# Altium schematic symbol library RFID Board.SchLib: 108 symbols (part 1 of 2)
Pins are listed as number, name and electrical type; pins without a type are passive.

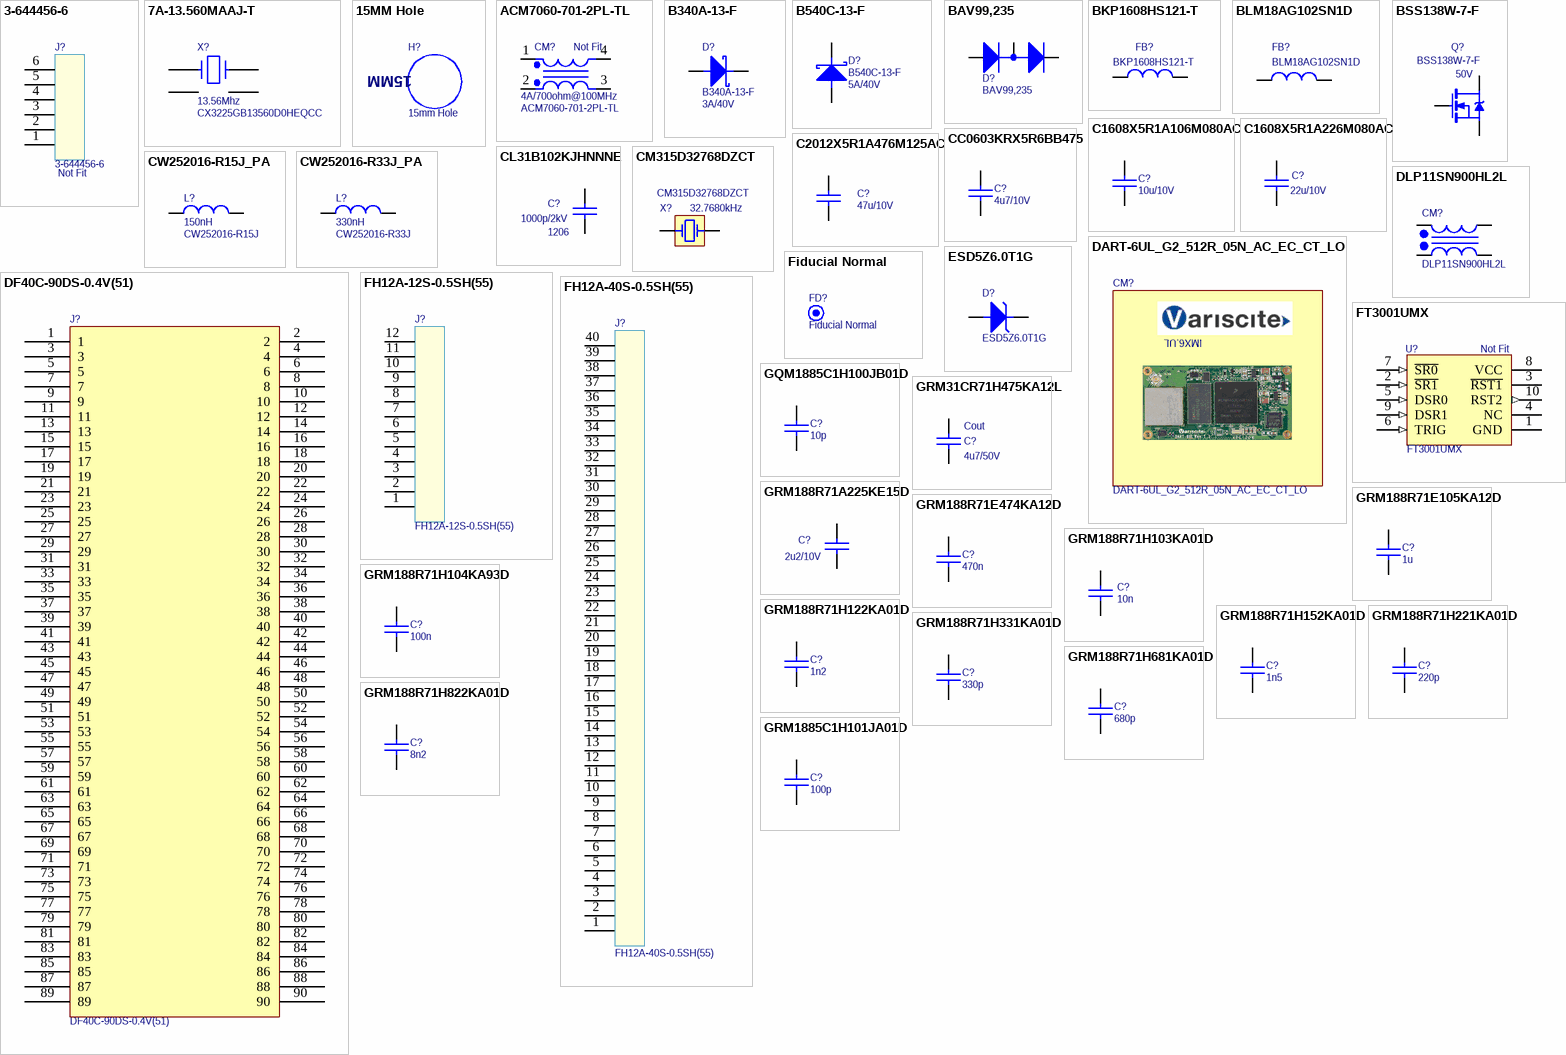
[diagram p0: symbols 3-644456-6 to GRM1885C1H101JA01D]

## 3-644456-6
designator J?  07 Assembly Options: Not Fit
Connector 6 way, 2.54mm, SMT Straight angle; 08 Manufacturer: TE; 06 Package: SMD; 12 Author: M.Fineschi; Notes: Mates with    A31092-ND and A31131-ND and more..; 02 Part Number: 3-644456-6; 03 Description: Connector 6 way, 2.54mm, SMT Straight angle; 04 Value: 3-644456-6; 01 Part Category: Connector; 09 Digikey PN: A31116-ND; 05 Footprint Type: SMD; ComponentLink1Description: Datasheet; ComponentLink1URL: L:\Datasheet\Connector\ENG_CD_644456_D2.pdf
footprint 3-644456-6 (6Pos 100Mil Pitch Header)
pins: 1, 2, 3, 4, 5, 6

## 7A-13.560MAAJ-T
designator X?, comment 13.56Mhz  02 Part Number: CX3225GB13560D0HEQCC
Crystal, 13.56Mhz, 18pF, +-30ppm, 50Ohm, Fundamental; 08 Manufacturer: AVX Corp/Kyocera Corp; 03 Description: CRYSTAL 13.56MHZ 8PF SMD; 06 Package: SMD-4; 05 Footprint Type: SMD; 12 Author: J.Orhan; 04 Value: CX3225GB13560D0HEQCC; 01 Part Category: Crystal; ComponentLink1Description: Datasheet; ComponentLink1URL: L:\Datasheet\Crystal\CX3225GBxD0HEQ_Series_Spec.pdf; 09 Digikey PN: 1253-1171-1-ND
footprint CX3225GB13560D0HEQCC
pins: 1, 2, 3, 4

## 15MM Hole
designator H?, comment 15mm Hole  (no BOM)
01 Part Category: Mechanical; 02 Part Number: M3 Hole; 12 Author: M.Fineschi; 03 Description: 15mm Hole; 04 Value: 15mm
footprint 15mm Hole
text: 15MM

## ACM7060-701-2PL-TL
designator CM?, comment 4A/700ohm@100MHz  07 Assembly Options: Not Fit  02 Part Number: ACM7060-701-2PL-TL
Common Mode Choke, 4A, 500ohm min 700ohm typ @100MHz, 15mOhm Max,; 01 Part Category: Filter; 08 Manufacturer: TDK Corporation; 06 Package: 7x6x3.5mm; 05 Footprint Type: SMD; 12 Author: D.Grace; 03 Description: Common Mode Choke, 4A, 500ohm min 700ohm typ @100MHz, 15mOhm Max,; 04 Value: 700ohm@100MHz; ComponentLink1Description: Datasheet; ComponentLink1URL: L:\Datasheet\Filter\ACM Series.pdf; 09 Digikey PN: 445-2215-2-ND
footprint ACM7060-701-2PL-TL (Common Mode Choke, L7 W6 H3.5)
pins: 1, 2, 3, 4

## B340A-13-F
designator D?  04 Value: 3A/40V
Diode, Schottky, Fast Recovery, 500mV @ 3A, 40V, 3A,  500ns, -65°C - +150°C; 01 Part Category: Protection; 08 Manufacturer: Diodes Inc; 06 Package: SMA; 05 Footprint Type: SMD; 12 Author: K.Sukumar; 03 Description: Diode, Schottky, Fast Recovery, 500mV @ 3A, 40V, 3A,  500ns, -65°C - +150°C; ComponentLink1Description: Datasheet; ComponentLink1URL: L:\Datasheet\Protection\ds30891.pdf; 09 Digikey PN: B340A-FDICT-ND; 02 Part Number: B340A-13-F
footprint CAPM4326X23N (Molded Capacitor, 2-Leads, Body 4.30x2.60mm, IPC Medium Density)
pins: A, K

## B540C-13-F
designator D?  04 Value: 5A/40V
Diode, Schottky, Fast Recovery, 550mV @ 5A, 40V, 5A,  500ns, -55°C - +125°C; 01 Part Category: Protection; 08 Manufacturer: Diodes Inc; 06 Package: SMC; 05 Footprint Type: SMD; 12 Author: J.McLachlan; 03 Description: Diode, Schottky, Fast Recovery, 550mV @ 5A, 40V, 5A,  500ns, -55°C - +125°C; ComponentLink1Description: Datasheet; ComponentLink1URL: L:\Datasheet\Protection\ds13012.pdf; 09 Digikey PN: B540C-FDITR-ND; 02 Part Number: B540C-13-F
footprint B540C (Molded Diode, 2-Leads, Body 7.18x5.90mm, IPC Medium Density)
pins: A, K

## BAV99,235
designator D?
Diodes, Vr = 100V, Io = 215mA, Vf = 1.25V, Tr = 4ns; 01 Part Category: Discreet; 08 Manufacturer: Fairchild Semiconductor; 06 Package: SOT-23-3; 12 Author: D.Grace; 05 Footprint Type: SMD; 02 Part Number: BAV99,235; 03 Description: Diodes, Vr = 100V, Io = 215mA, Vf = 1.25V, Tr = 4ns; 04 Value: BAV99,235; 09 Digikey PN: 568-5005-2-ND; ComponentLink1Description: Datasheet; ComponentLink1URL: L:\Datasheet\Discrete\BAV99_SER.pdf
footprint SOT95P240X130-3N (SOT23-3) DUAL DIODE A_KA_K (SOT23, 3-Leads, Body 3.1x2.7mm (max), Pitch 0.95mm, IPC Medium Density)
pins: A1, K1A2, K2

## BKP1608HS121-T
designator FB?, comment 02 Part Number: BKP1608HS121-T  (hidden comment: 120R@100MHz)
Ferrite Bead, 120R@100MHz, 2.7A, DC 35mohm max, -55 °C to 125°C; 01 Part Category: Filter; 08 Manufacturer: Taiyo Yuden; 06 Package: 0603; 05 Footprint Type: SMD; 12 Author: L.Liu; 03 Description: Ferrite Bead, 120R@100MHz, 2.7A, DC 35mohm max, -55 °C to 125°C; 04 Value: 120R@100MHz; ComponentLink1Description: Datasheet; ComponentLink1URL: I:\Engineering\Library\Datasheet\Filter\S_CIS21J121NE.pdf; 09 Digikey PN: 587-1923-2-ND
footprint RESC1608X06N(0603) (Chip Resistor 0603, 2-Leads, Body 1.6x0.8mm, IPC Medium Density)
pins: 1, 2

## BLM18AG102SN1D
designator FB?, comment 02 Part Number: BLM18AG102SN1D  (hidden comment: 400mA 1kohm@100MHz)
Ferrite Bead, 1kohm@100MHz, 400mA, 500mohm, -55 to 125C; 01 Part Category: Filter; 08 Manufacturer: Murata; 06 Package: 0603; 05 Footprint Type: SMD; 12 Author: M.Fineschi; 03 Description: Ferrite Bead, 1kohm@100MHz, 400mA, 500mohm, -55 to 125C; 04 Value: 1kohm@100MHz; ComponentLink1Description: Datasheet; ComponentLink1URL: L:\Datasheet\Filter\L0110S0100BLM18A.pdf; 09 Digikey PN: 490-1015-2-ND; 10 Alternate Supplier: BLM18AG102SN1D
footprint RESC1608X06N (Chip Resistor 0603, 2-Leads, Body 1.6x0.8mm, IPC Medium Density)
pins: 1, 2

## BSS138W-7-F
designator Q?  Notes: 50V
MOSFET, N-Channel, 3.5Ohm @ 220mA, Vdss = 50V, Id = 200mA,  Pmax = 200mW; 01 Part Category: Discrete; 08 Manufacturer: Diodes Inc; 06 Package: SC-70; 05 Footprint Type: SMD; 12 Author: D.Grace; 02 Part Number: BSS138W-7-F; 03 Description: MOSFET, N-Channel, 3.5Ohm @ 220mA, Vdss = 50V, Id = 200mA,  Pmax = 200mW; 04 Value: BSS138W-7-F; ComponentLink1Description: Datasheet; ComponentLink1URL: L:\Datasheet\Discrete\BSS138W-7-F.pdf; 09 Digikey PN: BSS138W-FDITR-ND
footprint SOT65P210X100-3N (SOT323) MOSFET GSD (SOT323, 3-Leads, Body 2.2x2.2mm (max), Pitch 0.65mm, IPC Medium Density)
pins: D, G, S

## C1608X5R1A106M080AC
designator C?, comment 10u/10V
Capacitor, Ceramic, 10V, ±20%, X5R, -55°C to 85°C; 02 Part Number: C1608X5R1A106M080AC; 08 Manufacturer: TDK Corporation; 04 Value: 10u; 06 Package: 0603; 12 Author: K.Sukumar; 05 Footprint Type: SMD; 03 Description: Capacitor, Ceramic, 10V, ±20%, X5R, -55°C to 85°C; 01 Part Category: Capacitor; 09 Digikey PN: 445-6853-2-ND; ComponentLink1Description: Datasheet; ComponentLink1URL: L:\Datasheet\Capacitor\mlcc_commercial_general_en.pdf
footprint CAPC1608X09N(0603) (Chip Capacitor 0603, 2-Leads, Body 1.7x0.8mm, H0.9mm, IPC Medium Density)
pins: 1, 2

## C1608X5R1A226M080AC
designator C?, comment 22u/10V
Capacitor, Ceramic, 10V, ±20%, X5R, -55°C to 85°C; 02 Part Number: C1608X5R1A226M080AC; 08 Manufacturer: TDK Corporation; 04 Value: 22u; 06 Package: 0603; 12 Author: K.Sukumar; 05 Footprint Type: SMD; 03 Description: Capacitor, Ceramic, 10V, ±20%, X5R, -55°C to 85°C; 01 Part Category: Capacitor; 09 Digikey PN: 445-9077-2-ND; ComponentLink1Description: Datasheet; ComponentLink1URL: L:\Datasheet\Capacitor\mlcc_commercial_general_en.pdf
footprint CAPC1608X09N(0603) (Chip Capacitor 0603, 2-Leads, Body 1.7x0.8mm, H0.9mm, IPC Medium Density)
pins: 1, 2

## C2012X5R1A476M125AC
designator C?, comment 47u/10V
Capacitor, Ceramic, 10V, ±20%, X5R, -55°C to 85°C; 02 Part Number: C2012X5R1A476M125AC; 08 Manufacturer: TDK; 04 Value: 47u; 06 Package: 0805; 12 Author: K.Sukumar; 05 Footprint Type: SMD; 03 Description: Capacitor, Ceramic, 10V, ±20%, X5R, -55°C to 85°C; 01 Part Category: Capacitor; 09 Digikey PN: 445-8239-2-ND; ComponentLink1Description: Datasheet; ComponentLink1URL: L:\Datasheet\Capacitor\mlcc_commercial_general_en.pdf
footprint CAPC2012X13N(0805) (Chip Capacitor 0805, 2-Leads, Body 2.0x1.3mm, H1.3mm, IPC Medium Density)
pins: 1, 2

## CC0603KRX5R6BB475
designator C?, comment 4u7/10V
Capacitor, Ceramic, 10V, ±10%, X5R, -55°C to 125°C; 02 Part Number: CC0603KRX5R6BB475; 08 Manufacturer: Yageo; 04 Value: 4u7; 06 Package: 0603; 12 Author: K.Sukumar; 05 Footprint Type: SMD; 03 Description: Capacitor, Ceramic, 10V, ±10%, X5R, -55°C to 125°C; 01 Part Category: Capacitor; 09 Digikey PN: 311-1455-2-ND; ComponentLink1Description: Datasheet; ComponentLink1URL: L:\Datasheet\Capacitor\mlcc01_e.pdf
footprint CAPC1608X09N(0603) (Chip Capacitor 0603, 2-Leads, Body 1.7x0.8mm, H0.9mm, IPC Medium Density)
pins: 1, 2

## CL31B102KJHNNNE
designator C?, comment 1000p/2kV  06 Package: 1206
Capacitor, Ceramic, 1n, 2kV, ±10%, X7R, -55°C to 125°C; 08 Manufacturer: Samsung Electromechanics; 02 Part Number: CL31B102KJHNNNE; 12 Author: M.Fineschi; 05 Footprint Type: SMD; 03 Description: Capacitor, Ceramic, 1n, 2kV, ±10%, X7R, -55°C to 125°C; 04 Value: 1n; 01 Part Category: Capacitor; 09 Digikey PN: 1276-3073-1-ND; ComponentLink1Description: Datasheet; ComponentLink1URL: L:\Datasheet\Capacitor\CL31B102KJHNNNE_Spec.pdf
footprint CAPC3216X16N(1206) (Chip Capacitor, 2-Leads, Body 3.2x1.6mm, H1.6mm, IPC Medium Density)
pins: 1, 2

## CM315D32768DZCT
designator X?, comment 32.7680kHz  04 Value: CM315D32768DZCT
Crystal, 32.7680kHz, 9pF/12.5pF, ESR 70k, f Tolerance ±20ppm, Fundamental, -40°C to 85°C; 08 Manufacturer: Citizen Finedevice Co Ltd; 06 Package: 1206; 05 Footprint Type: SMD; 12 Author: D.Grace; 03 Description: Crystal, 32.7680kHz, 9pF/12.5pF, ESR 70k, f Tolerance ±20ppm, Fundamental, -40°C to 85°C; 01 Part Category: Crystal; ComponentLink1Description: Datasheet; ComponentLink1URL: L:\Datasheet\Crystal\CM315D.pdf; 09 Digikey PN: 300-8813-2-ND; 02 Part Number: CM315D32768DZCT
footprint CM315D32768DZCT (Crystal, 32.768kHz, 3.2x1.5x0.9mm)
pins: 1 HOT, 2 HOT
1 alternate drawing of the same symbol

## CW252016-R15J_PA
designator L?, comment 150nH  02 Part Number: CW252016-R15J
Inductor, 150nH , I = 500mA, 220 mOhm, SRF 850MHz, ±5%; 01 Part Category: Passive; 08 Manufacturer: Bourns Inc; 06 Package: 1008; 05 Footprint Type: SMD; 12 Author: D.Grace; 13 Reviewed By: P.Moutzouris; 03 Description: Inductor, 150nH , I = 500mA, 220 mOhm, SRF 850MHz, ±5%; 04 Value: 150nH; ComponentLink1Description: Datasheet; ComponentLink1URL: L:\Datasheet\Inductor\CW252016.pdf; 09 Digikey PN: CW252016-R15JTR-ND
footprint CW252016
pins: 1, 2

## CW252016-R33J_PA
designator L?, comment 330nH  02 Part Number: CW252016-R33J
Inductor, 330nH , I = 500mA, 900 mOhm, SRF 570MHz, ±5%; 01 Part Category: Passive; 08 Manufacturer: Bourns Inc; 06 Package: 1008; 05 Footprint Type: SMD; 12 Author: D.Grace; 13 Reviewed By: P.Moutzouris; 03 Description: Inductor, 330nH , I = 500mA, 900 mOhm, SRF 570MHz, ±5%; 04 Value: 330nH; ComponentLink1Description: Datasheet; ComponentLink1URL: L:\Datasheet\Inductor\CW252016.pdf; 09 Digikey PN: CW252016-R33JTR-ND
footprint CW252016
pins: 1, 2

## DART-6UL_G2_512R_05N_AC_EC_CT_LO
designator CM?
Computer Module, 528MHz, no GPU, 512MB RAM, 512MB Flash, 100Mb Ethernet PHY, Audio, USB OTG; 08 Manufacturer: Variscite; 06 Package: 2x90 pin connector; 05 Footprint Type: Snap; Notes: Connector interface DF40C-90DS-0.4V(51); 12 Author: M.Fineschi; 02 Part Number: DART-6UL_G2_512R_05N_AC_EC_CT_LO; 03 Description: Computer Module, 528MHz, no GPU, 512MB RAM, 512MB Flash, 100Mb Ethernet PHY, Audio, USB OTG; 04 Value: DART-6UL_G2_512R_05N_AC_EC_CT_LO; 01 Part Category: Computer; ComponentLink1Description: Datasheet; ComponentLink1URL: L:\Datasheet\Computer\DART-6UL_v1_2_Datasheet_v1_4.pdf
footprint DART-6UL_G2 (Compute Module 255x50x4mm.)
text: IMX6.UL

## DF40C-90DS-0.4V(51)
designator J?
Board to Board Connector Header  90POS 0.4MM, smd, gold; 08 Manufacturer: Hirose; 06 Package: 90pin B2B Connector; Notes: Mates with H11878TR-ND; 12 Author: M.Fineschi; 03 Description: Board to Board Connector Header  90POS 0.4MM, smd, gold; 04 Value: DF40C-90DS-0.4V(51); 01 Part Category: Connector; 05 Footprint Type: SMD; ComponentLink1Description: Datasheet; ComponentLink1URL: L:/Datasheet/Connector/ed_DF40_20140305.pdf; 09 Digikey PN: H11877CT-ND; 02 Part Number: DF40C-90DS-0.4V(51)
footprint DF40C-90DS-0.4V(51) (Board to Board Connector 90 way, 0.4mm pitch,)
pins: 1, 2, 3, 4, 5, 6, 7, 8, 9, 10, 11, 12, 13, 14, 15, 16, 17, 18, 19, 20, 21, 22, 23, 24, 25, 26, 27, 28, 29, 30, 31, 32, 33, 34, 35, 36, 37, 38, 39, 40, 41, 42, 43, 44, 45, 46, 47, 48, 49, 50, 51, 52, 53, 54, 55, 56, 57, 58, 59, 60, 61, 62, 63, 64, 65, 66, 67, 68, 69, 70, 71, 72, 73, 74, 75, 76, 77, 78, 79, 80, 81, 82, 83, 84, 85, 86, 87, 88, 89, 90

## DLP11SN900HL2L
designator CM?
Common Mode Choque, 90Ohm , 150mA, 1.5Ohm DCR, -40 ~ 85 C; 01 Part Category: Filter; 08 Manufacturer: Murata; 03 Description: Inductor, 10µH , 3A rated, 3.2A Saturation, 72mOhm; 06 Package: 1210; 05 Footprint Type: SMD; 12 Author: M.Fineschi; 04 Value: DLP11SN900HL2L; ComponentLink1Description: Datasheet; ComponentLink1URL: L:\Datasheet\Filter\L0114S0129DLP11.pdf; 09 Digikey PN: 490-5143-1-ND; 02 Part Number: DLP11SN900HL2L
footprint DLP11SN900HL2L (DFN, 4-Leads, Body 1.25x1.01mm, Pitch 1.00mm, IPC Medium Density)
pins: 1, 2, 3, 4

## ESD5Z6.0T1G
designator D?
TVS Diode, Reverse Standoff 6V, Breakdown 6.8V, Clamping 20.5V, Peak Pulse 8.8A (8/20µs); 01 Part Category: Discrete; 08 Manufacturer: ON Semiconductor; 06 Package: SOD-523; 05 Footprint Type: SMD; 12 Author: L.Liu; 02 Part Number: ESD5Z6.0T1G; 03 Description: TVS Diode, Reverse Standoff 6V, Breakdown 6.8V, Clamping 20.5V, Peak Pulse 8.8A (8/20µs); 04 Value: ESD5Z6.0T1G; ComponentLink1Description: Datasheet; ComponentLink1URL: L:\Datasheet\Protection\ESD5Z2.5T1-D.PDF; 09 Digikey PN: ESD5Z6.0T1GOSTR-ND
footprint SODFL160X70-2N (SOD-523) (SODFL, 2-Leads, Body 0.80x1.60mm, IPC Medium Density)
pins: A, K

## FH12A-12S-0.5SH(55)
designator J?
Connector, FFC, Top, 12 way, 0.5mm, Right-Angle; 08 Manufacturer: Hirose Electric; 06 Package: SMD; 12 Author: M.Fineschi; 02 Part Number: FH12A-12S-0.5SH(55); 03 Description: Connector, FFC, Top, 12 way, 0.5mm, Right-Angle; 04 Value: FH12A-12S-0.5SH(55); 01 Part Category: Connector; 09 Digikey PN: HFK112CT-ND; 05 Footprint Type: SMD; ComponentLink1Description: Datasheet; ComponentLink1URL: L:/Datasheet/Connector/FH12_catalog.pdf
footprint FH12A-12S-0.5SH(55) (Connector, FFC, Flip, Top & Bottom, 8 way, 2mm, Right-Angle, 6.95x10.5mm)
pins: 1, 2, 3, 4, 5, 6, 7, 8, 9, 10, 11, 12

## FH12A-40S-0.5SH(55)
designator J?
Connector, FFC, Flip Type, Top , 40 way, 0.5mm, Right-Angle; 08 Manufacturer: Hirose Electric; 06 Package: SMD; 12 Author: M.Fineschi; 02 Part Number: FH12A-40S-0.5SH(55); 03 Description: Connector, FFC, Flip Type, Top , 40 way, 0.5mm, Right-Angle; 04 Value: FH12A-40S-0.5SH(55); 01 Part Category: Connector; 09 Digikey PN: HFK140DKR-ND; 05 Footprint Type: SMD; ComponentLink1Description: Datasheet; ComponentLink1URL: L:/Datasheet/Connector/FH12_catalog.pdf
footprint FH12A-40S-0.5SH(55) (Connector, FFC, Flip, Top Contact, 40 way, 0.5mm, Right-Angle, 24.7x5.25mm)
pins: 1, 2, 3, 4, 5, 6, 7, 8, 9, 10, 11, 12, 13, 14, 15, 16, 17, 18, 19, 20, 21, 22, 23, 24, 25, 26, 27, 28, 29, 30, 31, 32, 33, 34, 35, 36, 37, 38, 39, 40

## Fiducial Normal
designator FD?  (no BOM)
01 Part Category: PCB
footprint FID 1mm (FID, 1mm Solder Mask Clearance)

## FT3001UMX
designator U?  07 Assembly Options: Not Fit
Reset Timer with Configurable Delay, Quiescent Supply Current 1uA, -40C~85C; 01 Part Category: IC; 08 Manufacturer: Fairchild Semiconductor; 05 Footprint Type: SMD; 06 Package: 10UMLP; 12 Author: D.Grace; 02 Part Number: FT3001UMX; 03 Description: Reset Timer with Configurable Delay, Quiescent Supply Current 1uA, -40C~85C; 04 Value: FT3001UMX; 09 Digikey PN: FT3001UMXTR-ND; ComponentLink1Description: Datasheet; ComponentLink1URL: L:\Datasheet\IC\FT3001.pdf
footprint UMLP10 (UMLP 10 pin 1.4x1.8mm)
pins: 1 GND (power), 2 ~{SR1} (in), 3 ~{RST1} (oc), 4 NC, 5 DSR0 (in), 6 TRIG (in), 7 ~{SR0} (in), 8 VCC (power), 9 DSR1 (in), 10 RST2 (out)

## GQM1885C1H100JB01D
designator C?, comment 10p
Capacitor, Ceramic, 50V, ±5%, NP0, -55°C to 125°C; 02 Part Number: GQM1885C1H100JB01D; 08 Manufacturer: Murata Electronics North America; 06 Package: 0603; 12 Author: M.Fineschi; 05 Footprint Type: SMD; 03 Description: Capacitor, Ceramic, 50V, ±5%, NP0, -55°C to 125°C; 04 Value: 10p; 01 Part Category: Capacitor; 09 Digikey PN: 490-3570-1-ND; ComponentLink1Description: Datasheet; ComponentLink1URL: L:\Datasheet\Capacitor\c02e.pdf
footprint CAPC1608X09N(0603) (Chip Capacitor 0603, 2-Leads, Body 1.7x0.8mm, H0.9mm, IPC Medium Density)
pins: 1, 2

## GRM31CR71H475KA12L
designator C?, comment Cout  04 Value: 4u7/50V
Capacitor, Ceramic, 50V, ±10%, X7R, -55°C to 125°C; 02 Part Number: GRM31CR71H475KA12L; 08 Manufacturer: Murata Electronics North America; 06 Package: 1206; 12 Author: D.Grace; 05 Footprint Type: SMD; 03 Description: Capacitor, Ceramic, 50V, ±10%, X7R, -55°C to 125°C; 01 Part Category: Capacitor; 09 Digikey PN: 490-6521-2-ND; ComponentLink1Description: Datasheet; ComponentLink1URL: L:\Datasheet\Capacitor\c02e.pdf
footprint CAPC3216X16N(1206) (Chip Capacitor, 2-Leads, Body 3.2x1.6mm, H1.6mm, IPC Medium Density)
pins: 1, 2

## GRM188R71A225KE15D
designator C?, comment 2u2/10V
Capacitor, Ceramic, 10V, ±10%, X7R, -55°C to 125°C; 02 Part Number: GRM188R71A225KE15D; 08 Manufacturer: Murata Electronics North America; 04 Value: 2u2; 06 Package: 0603; 12 Author: D.Grace; 05 Footprint Type: SMD; 03 Description: Capacitor, Ceramic, 10V, ±10%, X7R, -55°C to 125°C; 01 Part Category: Capacitor; 09 Digikey PN: 490-4520-2-ND; ComponentLink1Description: Datasheet; ComponentLink1URL: L:\Datasheet\Capacitor\c02e.pdf
footprint CAPC1608X09N(0603) (Chip Capacitor 0603, 2-Leads, Body 1.7x0.8mm, H0.9mm, IPC Medium Density)
pins: 1, 2

## GRM188R71E105KA12D
designator C?, comment 1u
Capacitor, Ceramic, 25V, ±10%, X7R, -55°C to 125°C; 02 Part Number: GRM188R71E105KA12D; 08 Manufacturer: Murata Electronics North America; 06 Package: 0603; 12 Author: D.Grace; 05 Footprint Type: SMD; 03 Description: Capacitor, Ceramic, 25V, ±10%, X7R, -55°C to 125°C; 04 Value: 1u; 01 Part Category: Capacitor; 09 Digikey PN: 490-5307-2-ND; ComponentLink1Description: Datasheet; ComponentLink1URL: L:\Datasheet\Capacitor\c02e.pdf
footprint CAPC1608X09N(0603) (Chip Capacitor 0603, 2-Leads, Body 1.7x0.8mm, H0.9mm, IPC Medium Density)
pins: 1, 2

## GRM188R71E474KA12D
designator C?, comment 470n
Capacitor, Ceramic, 25V, ±10%, X7R, -55°C to 125°C; 02 Part Number: GRM188R71E474KA12D; 08 Manufacturer: Murata Electronics North America; 06 Package: 0603; 12 Author: D.Grace; 05 Footprint Type: SMD; 03 Description: Capacitor, Ceramic, 25V, ±10%, X7R, -55°C to 125°C; 04 Value: 470n; 01 Part Category: Capacitor; 09 Digikey PN: 490-3291-2-ND; ComponentLink1Description: Datasheet; ComponentLink1URL: L:\Datasheet\Capacitor\Chip Monolithic Ceramic Caps.pdf
footprint CAPC1608X09N(0603) (Chip Capacitor 0603, 2-Leads, Body 1.7x0.8mm, H0.9mm, IPC Medium Density)
pins: 1, 2

## GRM188R71H103KA01D
designator C?, comment 10n
Capacitor, Ceramic, 50V, ±10%, X7R, -55°C to 125°C; 02 Part Number: GRM188R71H103KA01D; 08 Manufacturer: Murata Electronics North America; 06 Package: 0603; 12 Author: D.Grace; 05 Footprint Type: SMD; 03 Description: Capacitor, Ceramic, 50V, ±10%, X7R, -55°C to 125°C; 04 Value: 10n; 01 Part Category: Capacitor; 09 Digikey PN: 490-1512-2-ND; ComponentLink1Description: Datasheet; ComponentLink1URL: L:\Datasheet\Capacitor\c02e.pdf
footprint CAPC1608X09N(0603) (Chip Capacitor 0603, 2-Leads, Body 1.7x0.8mm, H0.9mm, IPC Medium Density)
pins: 1, 2

## GRM188R71H104KA93D
designator C?, comment 100n
Capacitor, Ceramic, 50V, ±10%, X7R, -55°C to 125°C; 02 Part Number: GRM188R71H104KA93D; 08 Manufacturer: Murata Electronics North America; 06 Package: 0603; 12 Author: D.Grace; 05 Footprint Type: SMD; 03 Description: Capacitor, Ceramic, 50V, ±10%, X7R, -55°C to 125°C; 04 Value: 100n; 01 Part Category: Capacitor; 09 Digikey PN: 490-1519-2-ND; ComponentLink1Description: Datasheet; ComponentLink1URL: L:\Datasheet\Capacitor\c02e.pdf
footprint CAPC1608X09N(0603) (Chip Capacitor 0603, 2-Leads, Body 1.7x0.8mm, H0.9mm, IPC Medium Density)
pins: 1, 2

## GRM188R71H122KA01D
designator C?, comment 1n2
Capacitor, Ceramic, 50V, ±10%, X7R, -55°C to 125°C; 02 Part Number: GRM188R71H122KA01D; 08 Manufacturer: Murata Electronics North America; 06 Package: 0603; 12 Author: M.Fineschi; 05 Footprint Type: SMD; 03 Description: Capacitor, Ceramic, 50V, ±10%, X7R, -55°C to 125°C; 04 Value: 1n2; 01 Part Category: Capacitor; 09 Digikey PN: 490-1496-1-ND; ComponentLink1Description: Datasheet; ComponentLink1URL: L:\Datasheet\Capacitor\c02e.pdf
footprint CAPC1608X09N(0603) (Chip Capacitor 0603, 2-Leads, Body 1.7x0.8mm, H0.9mm, IPC Medium Density)
pins: 1, 2

## GRM188R71H152KA01D
designator C?, comment 1n5
Capacitor, Ceramic, 50V, ±10%, X7R, -55°C to 125°C; 02 Part Number: GRM188R71H152KA01D; 08 Manufacturer: Murata Electronics North America; 06 Package: 0603; 12 Author: M.Fineschi; 05 Footprint Type: SMD; 03 Description: Capacitor, Ceramic, 50V, ±10%, X7R, -55°C to 125°C; 04 Value: 1n5; 01 Part Category: Capacitor; 09 Digikey PN: 490-1498-1-ND; ComponentLink1Description: Datasheet; ComponentLink1URL: L:\Datasheet\Capacitor\c02e.pdf
footprint CAPC1608X09N(0603) (Chip Capacitor 0603, 2-Leads, Body 1.7x0.8mm, H0.9mm, IPC Medium Density)
pins: 1, 2

## GRM188R71H221KA01D
designator C?, comment 220p
Capacitor, Ceramic, 50V, ±10%, X7R, -55°C to 125°C; 02 Part Number: GRM188R71H221KA01D; 08 Manufacturer: Murata Electronics North America; 06 Package: 0603; 12 Author: M.Fineschi; 05 Footprint Type: SMD; 03 Description: Capacitor, Ceramic, 50V, ±10%, X7R, -55°C to 125°C; 04 Value: 220p; 01 Part Category: Capacitor; 09 Digikey PN: 490-1483-1-ND; ComponentLink1Description: Datasheet; ComponentLink1URL: L:\Datasheet\Capacitor\c02e.pdf
footprint CAPC1608X09N(0603) (Chip Capacitor 0603, 2-Leads, Body 1.7x0.8mm, H0.9mm, IPC Medium Density)
pins: 1, 2

## GRM188R71H331KA01D
designator C?, comment 330p
Capacitor, Ceramic, 50V, ±10%, X7R, -55°C to 125°C; 02 Part Number: GRM188R71H331KA01D; 08 Manufacturer: Murata Electronics North America; 06 Package: 0603; 12 Author: M.Fineschi; 05 Footprint Type: SMD; 03 Description: Capacitor, Ceramic, 50V, ±10%, X7R, -55°C to 125°C; 04 Value: 330p; 01 Part Category: Capacitor; 09 Digikey PN: 490-1486-1-ND; ComponentLink1Description: Datasheet; ComponentLink1URL: L:\Datasheet\Capacitor\c02e.pdf
footprint CAPC1608X09N(0603) (Chip Capacitor 0603, 2-Leads, Body 1.7x0.8mm, H0.9mm, IPC Medium Density)
pins: 1, 2

## GRM188R71H681KA01D
designator C?, comment 680p
Capacitor, Ceramic, 50V, ±10%, X7R, -55°C to 125°C; 02 Part Number: GRM188R71H681KA01D; 08 Manufacturer: Murata Electronics North America; 06 Package: 0603; 12 Author: M.Fineschi; 05 Footprint Type: SMD; 03 Description: Capacitor, Ceramic, 50V, ±10%, X7R, -55°C to 125°C; 04 Value: 680p; 01 Part Category: Capacitor; 09 Digikey PN: 490-1491-1-ND; ComponentLink1Description: Datasheet; ComponentLink1URL: L:\Datasheet\Capacitor\c02e.pdf
footprint CAPC1608X09N(0603) (Chip Capacitor 0603, 2-Leads, Body 1.7x0.8mm, H0.9mm, IPC Medium Density)
pins: 1, 2

## GRM188R71H822KA01D
designator C?, comment 8n2
Capacitor, Ceramic, 50V, ±10%, X7R, -55°C to 125°C; 02 Part Number: GRM188R71H822KA01D; 08 Manufacturer: Murata Electronics North America; 06 Package: 0603; 12 Author: D.Grace; 05 Footprint Type: SMD; 03 Description: Capacitor, Ceramic, 50V, ±10%, X7R, -55°C to 125°C; 04 Value: 8n2; 01 Part Category: Capacitor; 09 Digikey PN: 490-1510-2-ND; 10 Alternate Supplier: Mouser; 11 Alternate Supplier PN: 81-GRM39X822K50D; ComponentLink1Description: Datasheet; ComponentLink1URL: L:\Datasheet\Capacitor\c02e.pdf
footprint CAPC1608X09N(0603) (Chip Capacitor 0603, 2-Leads, Body 1.7x0.8mm, H0.9mm, IPC Medium Density)
pins: 1, 2

## GRM1885C1H101JA01D
designator C?, comment 100p
Capacitor, Ceramic, 50V, ±5%, C0G NP0, -55°C to 125°C; 02 Part Number: GRM1885C1H101JA01D; 08 Manufacturer: Murata Electronics North America; 06 Package: 0603; 12 Author: D.Grace; 05 Footprint Type: SMD; 03 Description: Capacitor, Ceramic, 50V, ±5%, C0G NP0, -55°C to 125°C; 04 Value: 100p; 01 Part Category: Capacitor; 09 Digikey PN: 490-1427-2-ND; 10 Alternate Supplier: Mouser; 11 Alternate Supplier PN: 81-GRM39C101J50; ComponentLink1Description: Datasheet; ComponentLink1URL: L:\Datasheet\Capacitor\c02e.pdf
footprint CAPC1608X09N(0603) (Chip Capacitor 0603, 2-Leads, Body 1.7x0.8mm, H0.9mm, IPC Medium Density)
pins: 1, 2

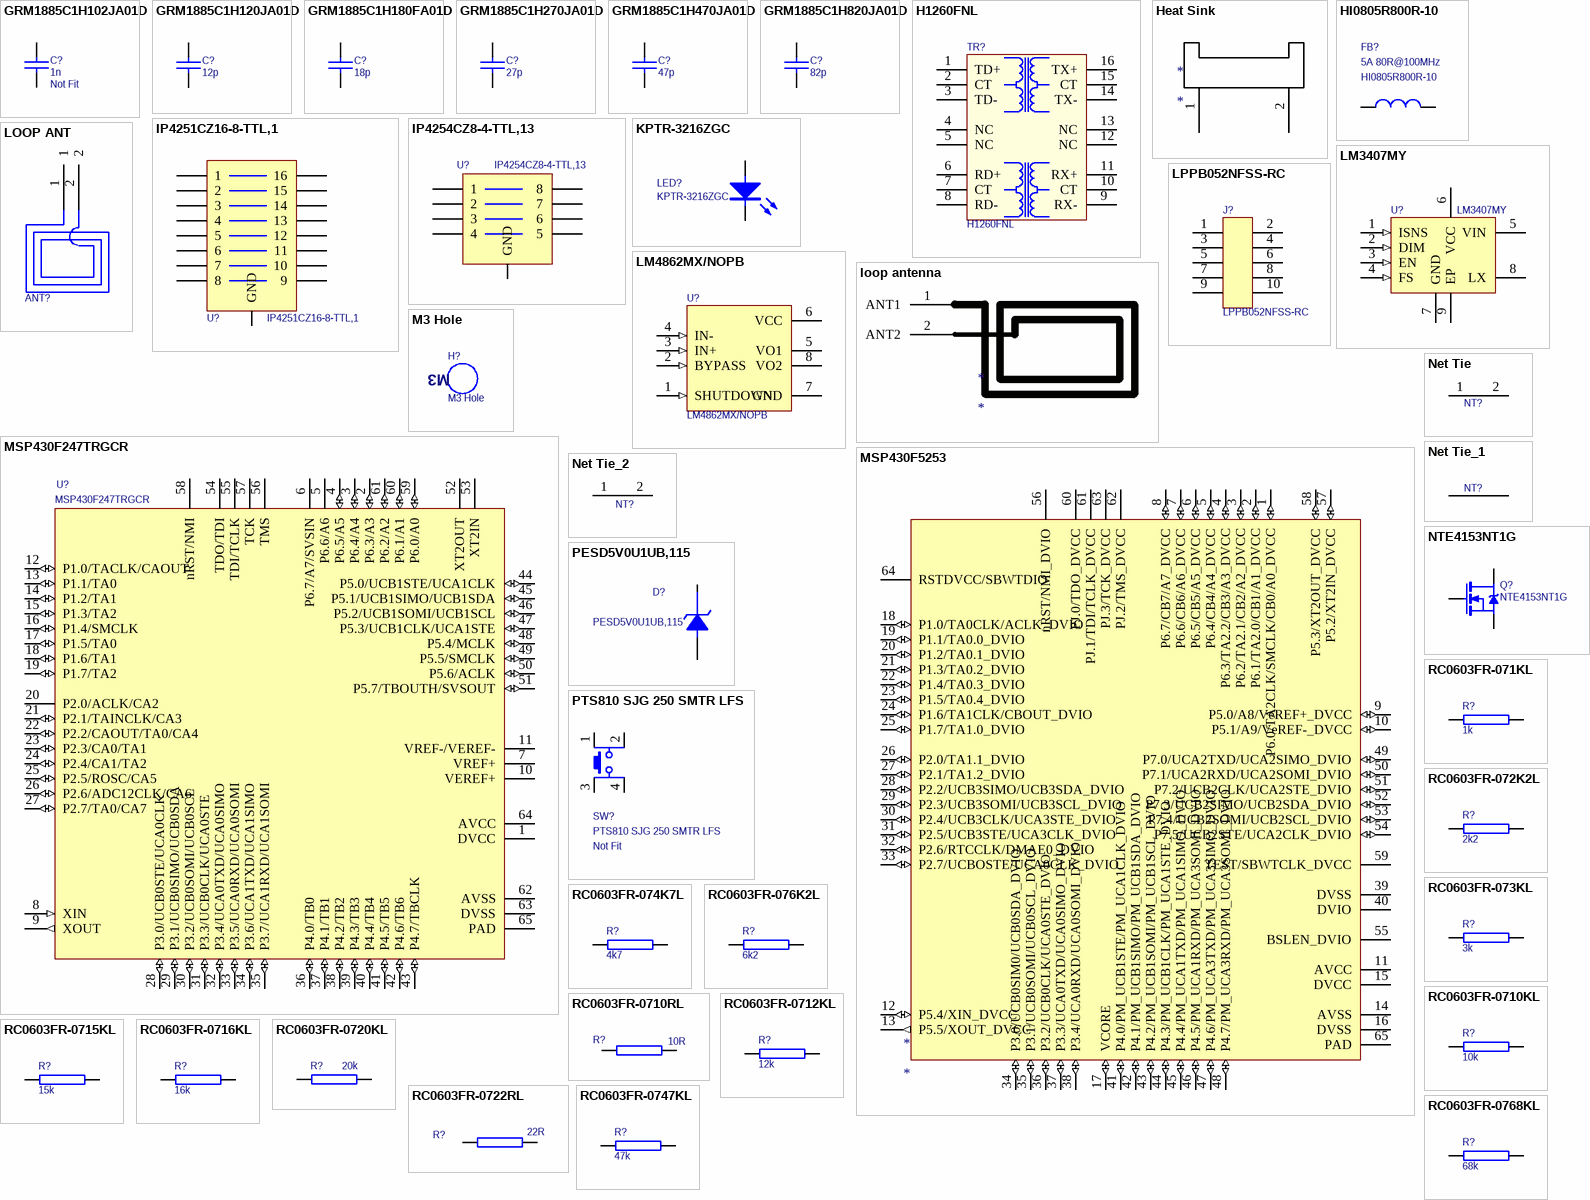
[diagram p1: symbols GRM1885C1H102JA01D to RC0603FR-0768KL]

## GRM1885C1H102JA01D
designator C?, comment 1n  07 Assembly Options: Not Fit
Capacitor, Ceramic, 50V, ±5%, C0G NP0, -55°C to 125°C; 02 Part Number: GRM1885C1H102JA01D; 08 Manufacturer: Murata Electronics North America; 06 Package: 0603; 12 Author: D.Grace; 05 Footprint Type: SMD; 03 Description: Capacitor, Ceramic, 50V, ±5%, C0G NP0, -55°C to 125°C; 04 Value: 1n; 01 Part Category: Capacitor; 09 Digikey PN: 490-1451-2-ND; ComponentLink1Description: Datasheet; ComponentLink1URL: L:\Datasheet\Capacitor\c02e.pdf
footprint CAPC1608X09N(0603) (Chip Capacitor 0603, 2-Leads, Body 1.7x0.8mm, H0.9mm, IPC Medium Density)
pins: 1, 2

## GRM1885C1H120JA01D
designator C?, comment 12p
Capacitor, Ceramic, 50V, ±5%, C0G NP0, -55°C to 125°C; 02 Part Number: GRM1885C1H120JA01D; 08 Manufacturer: Murata Electronics North America; 06 Package: 0603; 12 Author: D.Grace; 05 Footprint Type: SMD; 03 Description: Capacitor, Ceramic, 50V, ±5%, C0G NP0, -55°C to 125°C; 04 Value: 12p; 01 Part Category: Capacitor; 09 Digikey PN: 490-1405-2-ND; 10 Alternate Supplier: Mouser; 11 Alternate Supplier PN: 81-GRM39C120J50; ComponentLink1Description: Datasheet; ComponentLink1URL: L:\Datasheet\Capacitor\c02e.pdf
footprint CAPC1608X09N(0603) (Chip Capacitor 0603, 2-Leads, Body 1.7x0.8mm, H0.9mm, IPC Medium Density)
pins: 1, 2

## GRM1885C1H180FA01D
designator C?, comment 18p
Capacitor, Ceramic, 50V, Tin plated, ±1%, ±30ppm/C, C0G, 100mohm, -55°C to 125°C; 02 Part Number: GRM1885C1H180FA01D; 08 Manufacturer: Murata Electronics North America; 06 Package: 0603; 12 Author: D.Grace; 05 Footprint Type: SMD; 03 Description: Capacitor, Ceramic, 50V, Tin plated, ±1%, ±30ppm/C, C0G, 100mohm, -55°C to 125°C; 04 Value: 18p; 01 Part Category: Capacitor; 09 Digikey PN: GRM1885C1H180FA01D-ND; 10 Alternate Supplier: Mouser; 11 Alternate Supplier PN: 81-GRM1885C1H180FA; ComponentLink1Description: Datasheet; ComponentLink1URL: L:\Datasheet\Capacitor\Chip Monolithic Ceramic Caps.pdf
footprint CAPC1608X09N(0603) (Chip Capacitor 0603, 2-Leads, Body 1.7x0.8mm, H0.9mm, IPC Medium Density)
pins: 1, 2

## GRM1885C1H270JA01D
designator C?, comment 27p
Capacitor, Ceramic, 50V, ±5%, NP0, -55°C to 125°C; 02 Part Number: GRM1885C1H270JA01D; 08 Manufacturer: Murata Electronics North America; 06 Package: 0603; 12 Author: M.Fineschi; 05 Footprint Type: SMD; 03 Description: Capacitor, Ceramic, 50V, ±5%, NP0, -55°C to 125°C; 04 Value: 27p; 01 Part Category: Capacitor; 09 Digikey PN: 490-1413-1-ND; ComponentLink1Description: Datasheet; ComponentLink1URL: L:\Datasheet\Capacitor\c02e.pdf
footprint CAPC1608X09N(0603) (Chip Capacitor 0603, 2-Leads, Body 1.7x0.8mm, H0.9mm, IPC Medium Density)
pins: 1, 2

## GRM1885C1H470JA01D
designator C?, comment 47p
Capacitor, Ceramic, 50V, ±5%, NP0, -55°C to 125°C; 02 Part Number: GRM1885C1H470JA01D; 08 Manufacturer: Murata Electronics North America; 06 Package: 0603; 12 Author: M.Fineschi; 05 Footprint Type: SMD; 03 Description: Capacitor, Ceramic, 50V, ±5%, NP0, -55°C to 125°C; 04 Value: 47p; 01 Part Category: Capacitor; 09 Digikey PN: 490-1419-1-ND; ComponentLink1Description: Datasheet; ComponentLink1URL: L:\Datasheet\Capacitor\c02e.pdf
footprint CAPC1608X09N(0603) (Chip Capacitor 0603, 2-Leads, Body 1.7x0.8mm, H0.9mm, IPC Medium Density)
pins: 1, 2

## GRM1885C1H820JA01D
designator C?, comment 82p
Capacitor, Ceramic, 50V, ±5%, NP0, -55°C to 125°C; 02 Part Number: GRM1885C1H820JA01D; 08 Manufacturer: Murata Electronics North America; 06 Package: 0603; 12 Author: M.Fineschi; 05 Footprint Type: SMD; 03 Description: Capacitor, Ceramic, 50V, ±5%, NP0, -55°C to 125°C; 04 Value: 82p; 01 Part Category: Capacitor; 09 Digikey PN: 490-1425-1-ND; ComponentLink1Description: Datasheet; ComponentLink1URL: L:\Datasheet\Capacitor\c02e.pdf
footprint CAPC1608X09N(0603) (Chip Capacitor 0603, 2-Leads, Body 1.7x0.8mm, H0.9mm, IPC Medium Density)
pins: 1, 2

## H1260FNL
designator TR?
Transformer, 1 Port 100Base-T Ethernet, 1CT:1CT; 08 Manufacturer: Pulse Electronics Corporation; 06 Package: 12.7mmx9.1mmx5.99mm; 05 Footprint Type: SMD; 12 Author: M.Fineschi; 02 Part Number: H1260FNL; 03 Description: Transformer, 1 Port 100Base-T Ethernet, 1CT:1CT; 04 Value: H1260FNL; 01 Part Category: Transformer; ComponentLink1Description: Datasheet; ComponentLink1URL: L:\Datasheet\Inductor\H1260FNL.pdf; 09 Digikey PN: 553-2198-ND
footprint H1260FNL (SOP, 16-Leads, Body 12.70x9.04mm, Pitch 1.27mm, IPC Medium Density)
pins: 1 TD+, 2 CT, 3 TD-, 4 NC, 5 NC, 6 RD+, 7 CT, 8 RD-, 9 RX-, 10 CT, 11 RX+, 12 NC, 13 NC, 14 TX-, 15 CT, 16 TX+

## Heat Sink
designator *
pins: 1, 2

## HI0805R800R-10
designator FB?, comment 5A 80R@100MHz  02 Part Number: HI0805R800R-10
Ferrite Bead, 80 Ohm @ 100MHz, 5A, DC 10 mOhm Max, -55 °C to 125°C; 01 Part Category: Filter; 08 Manufacturer: Laird-Signal Integrity Products; 06 Package: 0805; 05 Footprint Type: SMD; 12 Author: L.Liu; 03 Description: Ferrite Bead, 80 Ohm @ 100MHz, 5A, DC 10 mOhm Max, -55 °C to 125°C; 04 Value: 80R@100MHz; ComponentLink1Description: Datasheet; ComponentLink1URL: I:\Engineering\Library\Datasheet\Filter\FerriteEMI_ChipBeads_br.pdf; 09 Digikey PN: 240-2395-2-ND
footprint RESC2012X06N(0805) (Chip Resistor, 2-Leads, Body 2.0x1.3mm, IPC Medium Density)
pins: 1, 2

## IP4251CZ16-8-TTL,1
designator U?
Filter, EMI and ESD, Pi filter with ESD protection, Rch = 100R, Cch = 10pF, Attenuation, 30dB @ 800MHz ~ 3GHz; 08 Manufacturer: NXP Semiconductors; 06 Package: 16-UFDFN; 12 Author: L.Liu; 05 Footprint Type: SMD; 02 Part Number: IP4251CZ16-8-TTL,1; 03 Description: Filter, EMI and ESD, Pi filter with ESD protection, Rch = 100R, Cch = 10pF, Attenuation, 30dB @ 800MHz ~ 3GHz; 04 Value: IP4251CZ16-8-TTL,1; 01 Part Category: Protection; 09 Digikey PN: 568-7185-2-ND; ComponentLink1Description: Datasheet; ComponentLink1URL: I:\Engineering\Library\Datasheet\Protection\IP4251_52_53_54-TTL.pdf
footprint SON40P130X55_HS-17N (16-UDFN) (Footprint not found)
pins: 1, 2, 3, 4, 5, 6, 7, 8, 9, 10, 11, 12, 13, 14, 15, 16, 17 GND

## IP4254CZ8-4-TTL,13
designator U?
Filter, EMI and ESD, Pi filter with ESD protection, Rch = 100R, Cch = 10pF, Attenuation, 30dB @ 800MHz ~ 3GHz; 08 Manufacturer: NXP Semiconductors; 06 Package: 8-UFDFN; 12 Author: M.Fineschi; 05 Footprint Type: SMD; 02 Part Number: IP4254CZ8-4-TTL,13; 03 Description: Filter, EMI and ESD, Pi filter with ESD protection, Rch = 100R, Cch = 10pF, Attenuation, 30dB @ 800MHz ~ 3GHz; 04 Value: IP4254CZ8-4-TTL,13; 01 Part Category: Protection; 09 Digikey PN: 568-7190-1-ND; ComponentLink1Description: Datasheet; ComponentLink1URL: I:\Engineering\Library\Datasheet\Protection\IP4251_52_53_54-TTL.pdf
footprint SON40P130X55_HS-9N (SON, 8-Leads, Body 1.70x1.35mm, Pitch 0.40mm, Thermal Pad 1.20x0.24mm, IPC Medium Density)
pins: 1, 2, 3, 4, 5, 6, 7, 8, 9 GND

## KPTR-3216ZGC
designator LED?
LED, Bottom Entry, Green, 4000mcd, 20mA, Vf=3V3; 01 Part Category: Discrete; 08 Manufacturer: Kingbright; 06 Package: 1206; 05 Footprint Type: SMD; 12 Author: M.Fineschi; 03 Description: LED, Bottom Entry, Green, 4000mcd, 20mA, Vf=3V3; 04 Value: KPTR-3216ZGC; ComponentLink1Description: Datasheet; ComponentLink1URL: L:\Datasheet\Discrete\KPTR-3216ZGC-G(Ver.4B).pdf; 09 Digikey PN: -; 10 Alternate Supplier: Element14; 11 Alternate Supplier PN: 2217988; 02 Part Number: KPTR-3216ZGC
footprint APTR3216QBC/D (Chip Capacitor, 2-Leads, Body 3.2x1.6mm, H1.6mm, IPC Medium Density)
pins: A, K

## LM3407MY
designator U?
IC, LED Driver, DC DC Buck, PWM Dimming, 350mA, 30V; 02 Part Number: LM3407MY/NOPB; 08 Manufacturer: TI; 06 Package: SOP-8; 05 Footprint Type: SMD; 12 Author: J.McLachlan; 03 Description: IC, LED Driver, DC DC Buck, PWM Dimming, 350mA, 30V; 04 Value: LM3407MY; 01 Part Category: IC; ComponentLink1Description: Datasheet; ComponentLink1URL: L:\Datasheet\IC\lm3407.pdf; 09 Digikey PN: LM3407MY/NOPBTR-ND
footprint TSOP65P490X110_HS-9N (TSOP, 8-Leads, Body 3.00x3.00mm, Pitch 0.65mm, Thermal Pad 2.00x1.85mm, IPC Medium Density)
pins: 1 ISNS (in), 2 DIM (in), 3 EN (in), 4 FS (in), 5 VIN (power), 6 VCC (power), 7 GND (power), 8 LX (power), 9 EP (power)

## LM4862MX/NOPB
designator U?
Audio Amplifier, 650mW@8Ohm, Mono, 3.3-5V; 08 Manufacturer: TI; 06 Package: SOIC-8; 05 Footprint Type: SMD; 12 Author: M.Fineschi; 02 Part Number: LM4862MX/NOPB; 03 Description: Audio Amplifier, 650mW@8Ohm, Mono, 3.3-5V; 04 Value: LM4862MX/NOPB; 01 Part Category: Audio; ComponentLink1Description: Datasheet; ComponentLink1URL: L:\Datasheet\Audio\lm4862.pdf; 09 Digikey PN: LM4862MX/NOPBCT-ND
footprint SOIC127P600-8N
pins: 1 SHUTDOWN (in), 2 BYPASS (in), 3 IN+ (in), 4 IN- (in), 5 VO1 (power), 6 VCC (power), 7 GND (power), 8 VO2 (power)

## LOOP ANT
designator ANT?, comment Loop Antenna  (value not drawn)  (mechanical)
FPC Loop Antenna; 02 Part Number: P0000475; 01 Part Category: Atenna; 12 Author: M.Fineschi; 03 Description: FPC Loop Antenna; 04 Value: P0000475
pins: 1, 2

## loop antenna
designator *
pins: 1 ANT1, 2 ANT2

## LPPB052NFSS-RC
designator J?
Socket,  Female, 2x5, 10 POS, Pitch 1.27mm; 01 Part Category: Connector; 08 Manufacturer: Sullins; 06 Package: SMD; 12 Author: K.Sukumar; 03 Description: Socket,  Female, 2x5, 10 POS, Pitch 1.27mm; 04 Value: LPPB052NFSS-RC; 09 Digikey PN: S9006E-05-ND; 05 Footprint Type: SMD; ComponentLink1Description: Datasheet; ComponentLink1URL: L:\Datasheet\Connector\Sullins_HEADER_.050_1.27mm_FEMALE.pdf; 02 Part Number: LPPB052NFSS-RC
footprint 2x 5, 1.27mm Pitch (2x5, 1.27mm pitch header)
pins: 1, 2, 3, 4, 5, 6, 7, 8, 9, 10

## M3 Hole
designator H?  (no BOM)
01 Part Category: Mechanical; 12 Author: J.McLachlan; 03 Description: M3 Hole; 04 Value: M3; 02 Part Number: M3 Hole
footprint M3 Hole

## MSP430F247TRGCR
designator U?
Microcontroller, MSP430, 16-Bit, Flash 32KB,  RAM 4kB, 16MHz, UART/USART, Brown-out Detect/Reset, PWM, WDT, 1.8V to 3.6V, -40°C to 85°C; 01 Part Category: IC; 08 Manufacturer: Texas Instruments; 04 Value: MSP430F5253IRGCR; 06 Package: 64-VQFN; 12 Author: J.McLachlan; 05 Footprint Type: SMD; 02 Part Number: MSP430F247TRGCR; 03 Description: Microcontroller, MSP430, 16-Bit, Flash 32KB,  RAM 4kB, 16MHz, UART/USART, Brown-out Detect/Reset, PWM, WDT, 1.8V to 3.6V, -40°C to 85°C; 09 Digikey PN: 296-23081-1-ND; ComponentLink1Description: M.Fineschi; ComponentLink1URL: L:\Datasheet\IC\msp430f247.pdf
footprint MSP430F525xIRGCR (QFN, 64-Leads, Body 9.00x9.00mm, Pitch 0.50mm, Thermal Pad 4.25x4.25mm, IPC Medium Density)
pins: 1 DVCC, 2 P6.3/A3 (io), 3 P6.4/A4 (io), 4 P6.5/A5 (io), 5 P6.6/A6, 6 P6.7/A7/SVSIN, 7 VREF+, 8 XIN (in), 9 XOUT (out), 10 VEREF+, 11 VREF-/VEREF-, 12 P1.0/TACLK/CAOUT (io), 13 P1.1/TA0 (io), 14 P1.2/TA1 (io), 15 P1.3/TA2 (io), 16 P1.4/SMCLK (io), 17 P1.5/TA0 (io), 18 P1.6/TA1 (io), 19 P1.7/TA2 (io), 20 P2.0/ACLK/CA2, 21 P2.1/TAINCLK/CA3 (io), 22 P2.2/CAOUT/TA0/CA4 (io), 23 P2.3/CA0/TA1 (io), 24 P2.4/CA1/TA2 (io), 25 P2.5/ROSC/CA5 (io), 26 P2.6/ADC12CLK/CA6 (io), 27 P2.7/TA0/CA7 (io), 28 P3.0/UCB0STE/UCA0CLK (io), 29 P3.1/UCB0SIMO/UCB0SDA (io), 30 P3.2/UCB0SOMI/UCB0SCL (io), 31 P3.3/UCB0CLK/UCA0STE (io), 32 P3.4/UCA0TXD/UCA0SIMO (io), 33 P3.5/UCA0RXD/UCA0SOMI (io), 34 P3.6/UCA1TXD/UCA1SIMO (io), 35 P3.7/UCA1RXD/UCA1SOMI (io), 36 P4.0/TB0 (io), 37 P4.1/TB1 (io), 38 P4.2/TB2 (io), 39 P4.3/TB3 (io), 40 P4.4/TB4 (io), 41 P4.5/TB5 (io), 42 P4.6/TB6 (io), 43 P4.7/TBCLK (io), 44 P5.0/UCB1STE/UCA1CLK (io), 45 P5.1/UCB1SIMO/UCB1SDA (io), 46 P5.2/UCB1SOMI/UCB1SCL (io), 47 P5.3/UCB1CLK/UCA1STE (io), 48 P5.4/MCLK (io), 49 P5.5/SMCLK (io), 50 P5.6/ACLK (io), 51 P5.7/TBOUTH/SVSOUT (io), 52 XT2OUT, 53 XT2IN, 54 TDO/TDI, 55 TDI/TCLK, 56 TMS, 57 TCK, 58 nRST/NMI, 59 P6.0/A0 (io), 60 P6.1/A1 (io), 61 P6.2/A2 (io), 62 AVSS, 63 DVSS, 64 AVCC, 65 PAD

## MSP430F5253
designator *
pins: 1 P6.0/TA2CLK/SMCLK/CB0/A0_DVCC (io), 2 P6.1/TA2.0/CB1/A1_DVCC (io), 3 P6.2/TA2.1/CB2/A2_DVCC (io), 4 P6.3/TA2.2/CB3/A3_DVCC (io), 5 P6.4/CB4/A4_DVCC (io), 6 P6.5/CB5/A5_DVCC (io), 7 P6.6/CB6/A6_DVCC (io), 8 P6.7/CB7/A7_DVCC (io), 9 P5.0/A8/VeREF+_DVCC (io), 10 P5.1/A9/VeREF-_DVCC (io), 11 AVCC, 12 P5.4/XIN_DVCC (io), 13 P5.5/XOUT_DVCC (out), 14 AVSS, 15 DVCC, 16 DVSS, 17 VCORE (io), 18 P1.0/TA0CLK/ACLK_DVIO (io), 19 P1.1/TA0.0_DVIO (io), 20 P1.2/TA0.1_DVIO (io), 21 P1.3/TA0.2_DVIO (io), 22 P1.4/TA0.3_DVIO (io), 23 P1.5/TA0.4_DVIO (io), 24 P1.6/TA1CLK/CBOUT_DVIO (io), 25 P1.7/TA1.0_DVIO (io), 26 P2.0/TA1.1_DVIO (io), 27 P2.1/TA1.2_DVIO (io), 28 P2.2/UCB3SIMO/UCB3SDA_DVIO (io), 29 P2.3/UCB3SOMI/UCB3SCL_DVIO (io), 30 P2.4/UCB3CLK/UCA3STE_DVIO (io), 31 P2.5/UCB3STE/UCA3CLK_DVIO (io), 32 P2.6/RTCCLK/DMAE0_DVIO (io), 33 P2.7/UCBOSTE/UCA0CLK_DVIO (io), 34 P3.0/UCB0SIM0/UCB0SDA_DVIO (io), 35 P3.1/UCB0SOMI/UCB0SCL_DVIO (io), 36 P3.2/UCB0CLK/UCA0STE_DVIO (io), 37 P3.3/UCA0TXD/UCA0SIMO_DVIO (io), 38 P3.4/UCA0RXD/UCA0SOMI_DVIO (io), 39 DVSS, 40 DVIO, 41 P4.0/PM_UCB1STE/PM_UCA1CLK_DVIO (io), 42 P4.1/PM_UCB1SIMO/PM_UCB1SDA_DVIO (io), 43 P4.2/PM_UCB1SOMI/PM_UCB1SCL_DVIO (io), 44 P4.3/PM_UCB1CLK/PM_UCA1STE_DVIO (io), 45 P4.4/PM_UCA1TXD/PM_UCA1SIMO_DVIO (io), 46 P4.5/PM_UCA1RXD/PM_UCA3SOMI_DVIO (io), 47 P4.6/PM_UCA3TXD/PM_UCA3SIMO_DVIO (io), 48 P4.7/PM_UCA3RXD/PM_UCA3SOMI_DVIO (io), 49 P7.0/UCA2TXD/UCA2SIMO_DVIO (io), 50 P7.1/UCA2RXD/UCA2SOMI_DVIO (io), 51 P7.2/UCB2CLK/UCA2STE_DVIO (io), 52 P7.3/UCB2SIMO/UCB2SDA_DVIO (io), 53 P7.4/UCB2SOMI/UCB2SCL_DVIO (io), 54 P7.5/UCB2STE/UCA2CLK_DVIO (io), 55 BSLEN_DVIO, 56 nRST/NMI_DVIO, 57 P5.2/XT2IN_DVCC (io), 58 P5.3/XT2OUT_DVCC (io), 59 TEST/SBWTCLK_DVCC, 60 PJ.0/TDO_DVCC, 61 PJ.1/TDI/TCLK_DVCC, 62 PJ.2/TMS_DVCC, 63 PJ.3/TCK_DVCC, 64 RSTDVCC/SBWTDIO, 65 PAD

## Net Tie
designator NT?  (value not drawn)  (net tie, no BOM)
footprint 0.15mm Net Tie
footprint 0.5mm Net Tie
pins: 1, 2

## Net Tie_1
designator NT?, comment Net Tie  (value not drawn)  (net tie, no BOM)
footprint 0.15mm Net Tie
footprint 0.5mm Net Tie
pins: 1, 2

## Net Tie_2
designator NT?, comment Net Tie  (value not drawn)  (net tie, no BOM)
footprint 0.15mm Net Tie
pins: 1, 2

## NTE4153NT1G
designator Q?
MOSFET, N-Channel, Logic Level, 0.5Ohm @ 1.5V, Vds 50V, Id 915mA, 300mW; 01 Part Category: Discrete; 08 Manufacturer: On Semiconductor; 06 Package: SC-89; 05 Footprint Type: SMD; 12 Author: D.Grace; 02 Part Number: NTE4153NT1G; 03 Description: Logic Level, 0.5Ohm @ 1.5V, Vds 50V, Id 915mA, 300mW; 04 Value: NTE4153NT1G; ComponentLink1Description: Datasheet; ComponentLink1URL: L:\Datasheet\Discrete\NTA4153N-D.pdf; 09 Digikey PN: NTE4153NT1GOSTR-ND
footprint SC-89 (SOT89, 3-Leads, Body 1.7x1.7mm (max), Pitch 0.50mm, IPC Medium Density)
pins: D, G, S

## PESD5V0U1UB,115
designator D?
Diode, TVS, Ulta Low Capacitance, Unidirectional, Standoff 5V, -55°C to 125°C; 01 Part Category: Discreet; 08 Manufacturer: NXP Semiconductor; 04 Value: RSB33VTE-17; 06 Package: S0OD523; 05 Footprint Type: SMD; 12 Author: M.Fineschi; 02 Part Number: PESD5V0U1UB,115; 03 Description: Diode, TVS, Ulta Low Capacitance, Unidirectional, Standoff 5V, -55°C to 125°C; ComponentLink1Description: Datasheet; ComponentLink1URL: I:\Engineering\Library\Datasheet\Protection\PESD5V0U1UA_UB_UL; 09 Digikey PN: 568-4671-2-ND
footprint SODFL160X70-2N (SOD-523) (SODFL, 2-Leads, Body 0.80x1.60mm, IPC Medium Density)
pins: A, K

## PTS810 SJG 250 SMTR LFS
designator SW?  07 Assembly Options: Not Fit
Switch, Tactile, SPST-NO, 0.05A, 16V, 400g Force, 0.2mm Travel, 100000 Cycles, -40°C to 85°C; 08 Manufacturer: C&K Components; 06 Package: 4.2x3.2mm; 12 Author: D.G.; 05 Footprint Type: SMD; 02 Part Number: PTS810 SJG 250 SMTR LFS; 03 Description: Switch, Tactile, SPST-NO, 0.05A, 16V, 400g Force, 0.2mm Travel, 100000 Cycles, -40°C to 85°C; 01 Part Category: Switch; 09 Digikey PN: CKN10504TR-ND; ComponentLink1Description: Datasheet; ComponentLink1URL: L:\Datasheet\Switch\PTS810_4mar13.pdf; 04 Value: PTS810 SJG 250 SMTR LFS
footprint PTS810 SJG 250 SMTR LFS (Switch, Tactile, 400g Force, SPST-NO, 0.05A, 16V)
pins: 1, 2, 3, 4

## RC0603FR-071KL
designator R?, comment 1k
Resistor, Thick Film, 0.1W, ±1%, ±100ppm/°C; 02 Part Number: RC0603FR-071KL; 08 Manufacturer: Yageo; 13 Reviewed By: P.Moutzouris; 06 Package: 0603; 12 Author: D.Grace; 05 Footprint Type: SMD; 03 Description: Resistor, Thick Film, 0.1W, ±1%, ±100ppm/°C; 04 Value: 1k; 09 Digikey PN: 311-1.00KHRTR-ND; 01 Part Category: Resistor; ComponentLink1Description: Datasheet; ComponentLink1URL: L:\Datasheet\Resistor\PYu-RC0603_51_RoHS_L_4.pdf
footprint RESC1608X06N(0603) (Chip Resistor 0603, 2-Leads, Body 1.6x0.8mm, IPC Medium Density)
pins: 1, 2

## RC0603FR-072K2L
designator R?, comment 2k2
Resistor, Thick Film, 0.1W, ±1%, ±100ppm/°C; 02 Part Number: RC0603FR-072K2L; 08 Manufacturer: Yageo; 13 Reviewed By: P.Moutzouris; 06 Package: 0603; 12 Author: D.Grace; 05 Footprint Type: SMD; 03 Description: Resistor, Thick Film, 0.1W, ±1%, ±100ppm/°C; 04 Value: 2k2; 09 Digikey PN: 311-2.20KHRTR-ND; 01 Part Category: Resistor; ComponentLink1Description: Datasheet; ComponentLink1URL: L:\Datasheet\Resistor\PYu-RC0603_51_RoHS_L_4.pdf
footprint RESC1608X06N(0603) (Chip Resistor 0603, 2-Leads, Body 1.6x0.8mm, IPC Medium Density)
pins: 1, 2

## RC0603FR-073KL
designator R?, comment 3k
Resistor, Thick Film, 0.1W, ±1%, ±100ppm/°C; 02 Part Number: RC0603FR-073KL; 08 Manufacturer: Yageo; 13 Reviewed By: P.Moutzouris; 06 Package: 0603; 12 Author: D.Grace; 05 Footprint Type: SMD; 03 Description: Resistor, Thick Film, 0.1W, ±1%, ±100ppm/°C; 04 Value: 3k; 09 Digikey PN: 311-3.00KHRTR-ND; 01 Part Category: Resistor; ComponentLink1Description: Datasheet; ComponentLink1URL: L:\Datasheet\Resistor\PYu-RC0603_51_RoHS_L_4.pdf
footprint RESC1608X06N(0603) (Chip Resistor 0603, 2-Leads, Body 1.6x0.8mm, IPC Medium Density)
pins: 1, 2

## RC0603FR-074K7L
designator R?, comment 4k7
Resistor, Thick Film, 0.1W, ±1%, ±100ppm/°C; 02 Part Number: RC0603FR-074K7L; 08 Manufacturer: Yageo; 13 Reviewed By: P.Moutzouris; 06 Package: 0603; 12 Author: D.Grace; 05 Footprint Type: SMD; 03 Description: Resistor, Thick Film, 0.1W, ±1%, ±100ppm/°C; 04 Value: 4k7; 09 Digikey PN: 311-4.70KHRTR-ND; 01 Part Category: Resistor; ComponentLink1Description: Datasheet; ComponentLink1URL: L:\Datasheet\Resistor\PYu-RC0603_51_RoHS_L_4.pdf
footprint RESC1608X06N(0603) (Chip Resistor 0603, 2-Leads, Body 1.6x0.8mm, IPC Medium Density)
pins: 1, 2

## RC0603FR-076K2L
designator R?, comment 6k2
Resistor, Thick Film, 0.1W, ±1%, ±100ppm/°C; 02 Part Number: RC0603FR-076K2L; 08 Manufacturer: Yageo; 13 Reviewed By: P.Moutzouris; 06 Package: 0603; 12 Author: D.Grace; 05 Footprint Type: SMD; 03 Description: Resistor, Thick Film, 0.1W, ±1%, ±100ppm/°C; 04 Value: 6k2; 09 Digikey PN: 311-6.20KHRTR-ND; 01 Part Category: Resistor; ComponentLink1Description: Datasheet; ComponentLink1URL: L:\Datasheet\Resistor\PYu-RC0603_51_RoHS_L_4.pdf
footprint RESC1608X06N(0603) (Chip Resistor 0603, 2-Leads, Body 1.6x0.8mm, IPC Medium Density)
pins: 1, 2

## RC0603FR-0710KL
designator R?, comment 10k
Resistor, Thick Film, 0.1W, ±1%, ±100ppm/°C; 02 Part Number: RC0603FR-0710KL; 08 Manufacturer: Yageo; 13 Reviewed By: P.Moutzouris; 06 Package: 0603; 12 Author: D.Grace; 05 Footprint Type: SMD; 03 Description: Resistor, Thick Film, 0.1W, ±1%, ±100ppm/°C; 04 Value: 10k; 09 Digikey PN: 311-10.0KHRTR-ND; 01 Part Category: Resistor; ComponentLink1Description: Datasheet; ComponentLink1URL: L:\Datasheet\Resistor\PYu-RC0603_51_RoHS_L_4.pdf
footprint RESC1608X06N(0603) (Chip Resistor 0603, 2-Leads, Body 1.6x0.8mm, IPC Medium Density)
pins: 1, 2

## RC0603FR-0710RL
designator R?, comment 10R
Resistor, Thick Film, 0.1W, ±1%, ±100ppm/°C; 08 Manufacturer: Yageo; 02 Part Number: RC0603FR-0710RL; 06 Package: 0603; 12 Author: M.Fineschi; 05 Footprint Type: SMD; 03 Description: Resistor, Thick Film, 0.1W, ±1%, ±100ppm/°C; 04 Value: 10R; 09 Digikey PN: 311-10.0HRCT-ND; 01 Part Category: Resistor; ComponentLink1Description: Datasheet; ComponentLink1URL: L:\Datasheet\Resistor\PYu-RC0603_51_RoHS_L_4.pdf
footprint RESC1608X06N(0603) (Chip Resistor 0603, 2-Leads, Body 1.6x0.8mm, IPC Medium Density)
pins: 1, 2

## RC0603FR-0712KL
designator R?, comment 12k
Resistor, Thick Film, 0.1W, ±1%, ±100ppm/°C; 02 Part Number: RC0603FR-0712KL; 08 Manufacturer: Yageo; 13 Reviewed By: P.Moutzouris; 06 Package: 0603; 12 Author: D.Grace; 05 Footprint Type: SMD; 03 Description: Resistor, Thick Film, 0.1W, ±1%, ±100ppm/°C; 04 Value: 12k; 09 Digikey PN: 311-12.0KHRTR-ND; 01 Part Category: Resistor; ComponentLink1Description: Datasheet; ComponentLink1URL: L:\Datasheet\Resistor\PYu-RC0603_51_RoHS_L_4.pdf
footprint RESC1608X06N(0603) (Chip Resistor 0603, 2-Leads, Body 1.6x0.8mm, IPC Medium Density)
pins: 1, 2

## RC0603FR-0715KL
designator R?, comment 15k
Resistor, Thick Film, 0.1W, ±1%, ±100ppm/°C; 02 Part Number: RC0603FR-0715KL; 08 Manufacturer: Yageo; 13 Reviewed By: P.Moutzouris; 06 Package: 0603; 12 Author: D.Grace; 05 Footprint Type: SMD; 03 Description: Resistor, Thick Film, 0.1W, ±1%, ±100ppm/°C; 04 Value: 15k; 09 Digikey PN: 311-15.0KHRTR-ND; 01 Part Category: Resistor; ComponentLink1Description: Datasheet; ComponentLink1URL: L:\Datasheet\Resistor\PYu-RC0603_51_RoHS_L_4.pdf
footprint RESC1608X06N(0603) (Chip Resistor 0603, 2-Leads, Body 1.6x0.8mm, IPC Medium Density)
pins: 1, 2

## RC0603FR-0716KL
designator R?, comment 16k
Resistor, Thick Film, 0.1W, ±1%, ±100ppm/°C; 02 Part Number: RC0603FR-0716KL; 08 Manufacturer: Yageo; 13 Reviewed By: P.Moutzouris; 06 Package: 0603; 12 Author: D.Grace; 05 Footprint Type: SMD; 03 Description: Resistor, Thick Film, 0.1W, ±1%, ±100ppm/°C; 04 Value: 16k; 09 Digikey PN: 311-16.0KHRTR-ND; 01 Part Category: Resistor; ComponentLink1Description: Datasheet; ComponentLink1URL: L:\Datasheet\Resistor\PYu-RC0603_51_RoHS_L_4.pdf
footprint RESC1608X06N(0603) (Chip Resistor 0603, 2-Leads, Body 1.6x0.8mm, IPC Medium Density)
pins: 1, 2

## RC0603FR-0720KL
designator R?, comment 20k
Resistor, Thick Film, 0.1W, ±1%, ±100ppm/°C; 02 Part Number: RC0603FR-0720KL; 08 Manufacturer: Yageo; 13 Reviewed By: P.Moutzouris; 06 Package: 0603; 12 Author: D.Grace; 05 Footprint Type: SMD; 03 Description: Resistor, Thick Film, 0.1W, ±1%, ±100ppm/°C; 04 Value: 20k; 09 Digikey PN: 311-20.0KHRTR-ND; 01 Part Category: Resistor; ComponentLink1Description: Datasheet; ComponentLink1URL: L:\Datasheet\Resistor\PYu-RC0603_51_RoHS_L_4.pdf
footprint RESC1608X06N(0603) (Chip Resistor 0603, 2-Leads, Body 1.6x0.8mm, IPC Medium Density)
pins: 1, 2

## RC0603FR-0722RL
designator R?, comment 22R
Resistor, Thick Film, 0.1W, ±1%, ±100ppm/°C; 02 Part Number: RC0603FR-0722RL; 08 Manufacturer: Yageo; 13 Reviewed By: P.Moutzouris; 06 Package: 0603; 12 Author: D.Grace; 05 Footprint Type: SMD; 03 Description: Resistor, Thick Film, 0.1W, ±1%, ±100ppm/°C; 04 Value: 22R; 09 Digikey PN: 311-22.0HRTR-ND; 01 Part Category: Resistor; ComponentLink1Description: Datasheet; ComponentLink1URL: L:\Datasheet\Resistor\PYu-RC0603_51_RoHS_L_4.pdf
footprint RESC1608X06N(0603) (Chip Resistor 0603, 2-Leads, Body 1.6x0.8mm, IPC Medium Density)
pins: 1, 2

## RC0603FR-0747KL
designator R?, comment 47k
Resistor, Thick Film, 0.1W, ±1%, ±100ppm/°C; 02 Part Number: RC0603FR-0747KL; 08 Manufacturer: Yageo; 13 Reviewed By: P.Moutzouris; 06 Package: 0603; 12 Author: D.Grace; 05 Footprint Type: SMD; 03 Description: Resistor, Thick Film, 0.1W, ±1%, ±100ppm/°C; 04 Value: 47k; 09 Digikey PN: 311-47.0KHRTR-ND; 01 Part Category: Resistor; ComponentLink1Description: Datasheet; ComponentLink1URL: L:\Datasheet\Resistor\PYu-RC0603_51_RoHS_L_4.pdf
footprint RESC1608X06N(0603) (Chip Resistor 0603, 2-Leads, Body 1.6x0.8mm, IPC Medium Density)
pins: 1, 2

## RC0603FR-0768KL
designator R?, comment 68k
Resistor, Thick Film, 0.1W, ±1%, ±100ppm/°C; 02 Part Number: RC0603FR-0768KL; 08 Manufacturer: Yageo; 13 Reviewed By: P.Moutzouris; 06 Package: 0603; 12 Author: D.Grace; 05 Footprint Type: SMD; 03 Description: Resistor, Thick Film, 0.1W, ±1%, ±100ppm/°C; 04 Value: 68k; 09 Digikey PN: 311-68.0KHRTR-ND; 01 Part Category: Resistor; ComponentLink1Description: Datasheet; ComponentLink1URL: L:\Datasheet\Resistor\PYu-RC0603_51_RoHS_L_4.pdf
footprint RESC1608X06N(0603) (Chip Resistor 0603, 2-Leads, Body 1.6x0.8mm, IPC Medium Density)
pins: 1, 2

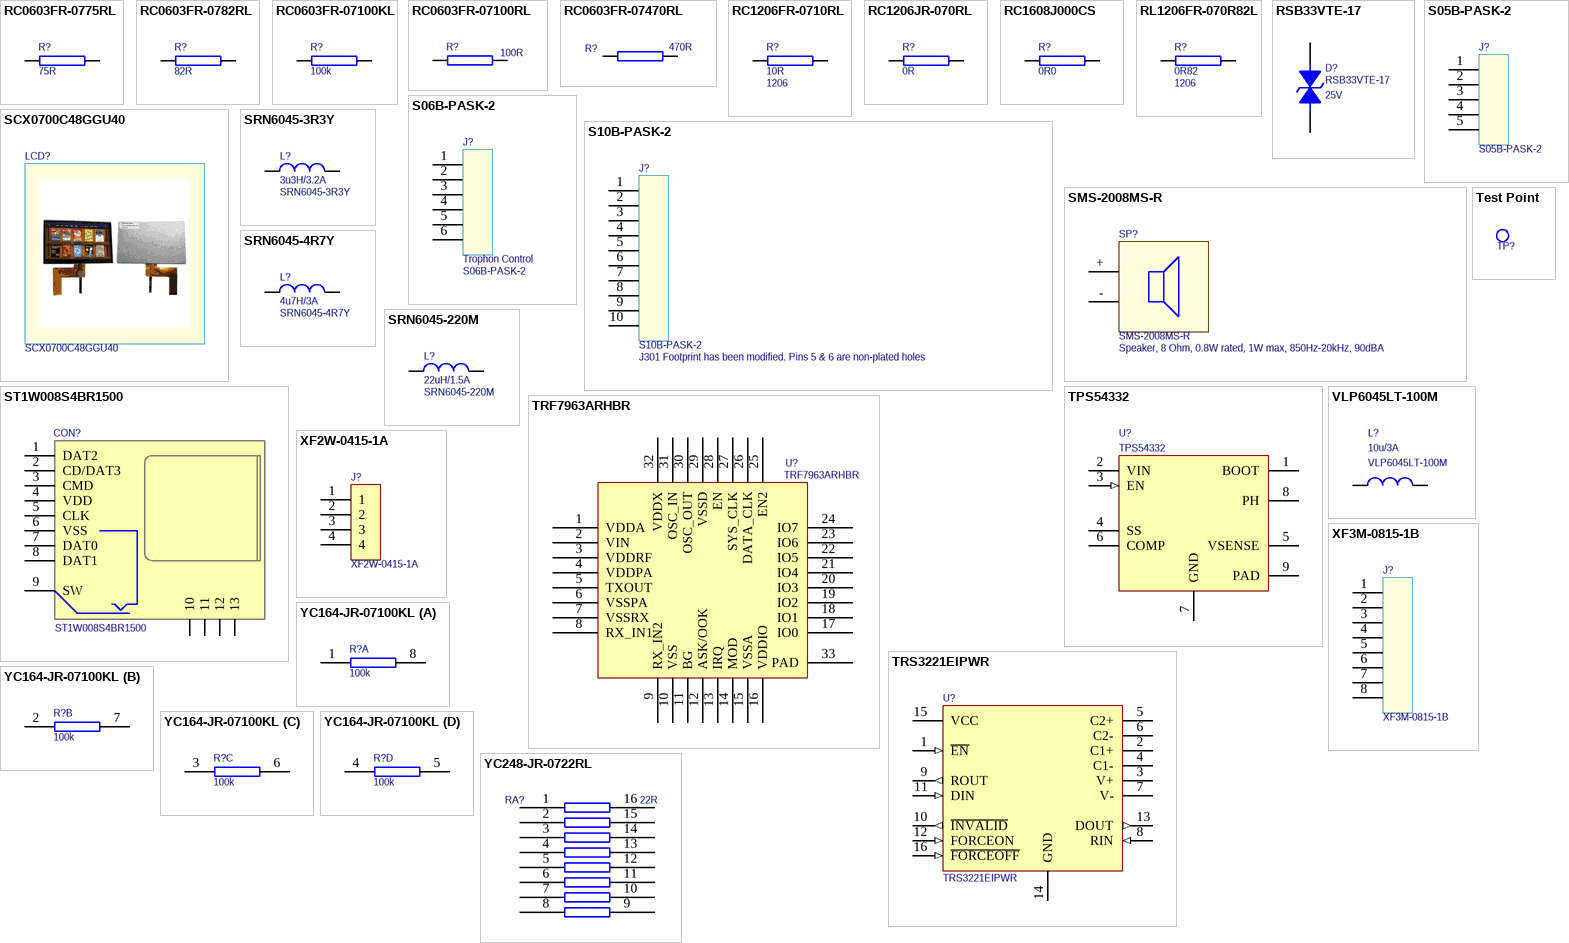
[diagram p2: symbols RC0603FR-0775RL to YC248-JR-0722RL]

## RC0603FR-0775RL
designator R?, comment 75R
Resistor, Thick Film, 0.1W, ±1%, ±100ppm/°C; 02 Part Number: RC0603FR-0775RL; 08 Manufacturer: Yageo; 13 Reviewed By: P.Moutzouris; 06 Package: 0603; 12 Author: D.Grace; 05 Footprint Type: SMD; 03 Description: Resistor, Thick Film, 0.1W, ±1%, ±100ppm/°C; 04 Value: 75R; 09 Digikey PN: 311-75.0HRTR-ND; 01 Part Category: Resistor; ComponentLink1Description: Datasheet; ComponentLink1URL: L:\Datasheet\Resistor\PYu-RC0603_51_RoHS_L_4.pdf
footprint RESC1608X06N(0603) (Chip Resistor 0603, 2-Leads, Body 1.6x0.8mm, IPC Medium Density)
pins: 1, 2

## RC0603FR-0782RL
designator R?, comment 82R
Resistor, Thick Film, 0.1W, ±1%, ±100ppm/°C; 02 Part Number: RC0603FR-0782RL; 08 Manufacturer: Yageo; 13 Reviewed By: P.Moutzouris; 06 Package: 0603; 12 Author: D.Grace; 05 Footprint Type: SMD; 03 Description: Resistor, Thick Film, 0.1W, ±1%, ±100ppm/°C; 04 Value: 82R; 09 Digikey PN: 311-82.0HRTR-ND; 01 Part Category: Resistor; ComponentLink1Description: Datasheet; ComponentLink1URL: L:\Datasheet\Resistor\PYu-RC0603_51_RoHS_L_4.pdf
footprint RESC1608X06N(0603) (Chip Resistor 0603, 2-Leads, Body 1.6x0.8mm, IPC Medium Density)
pins: 1, 2